# Altium footprint library Connector_FFC-FPC.PcbLib: 372 footprints (part 23 of 24)
Each footprint in its own frame and in the unit in brackets; x right, y up, seen from the top. Pads: shape width x height; smd on the part's side, far side on the other; paste and mask are expansions set on the pad; w line width, h text height; cw(c..) or ccw(c..) is an arc to the next point about the centre after c.
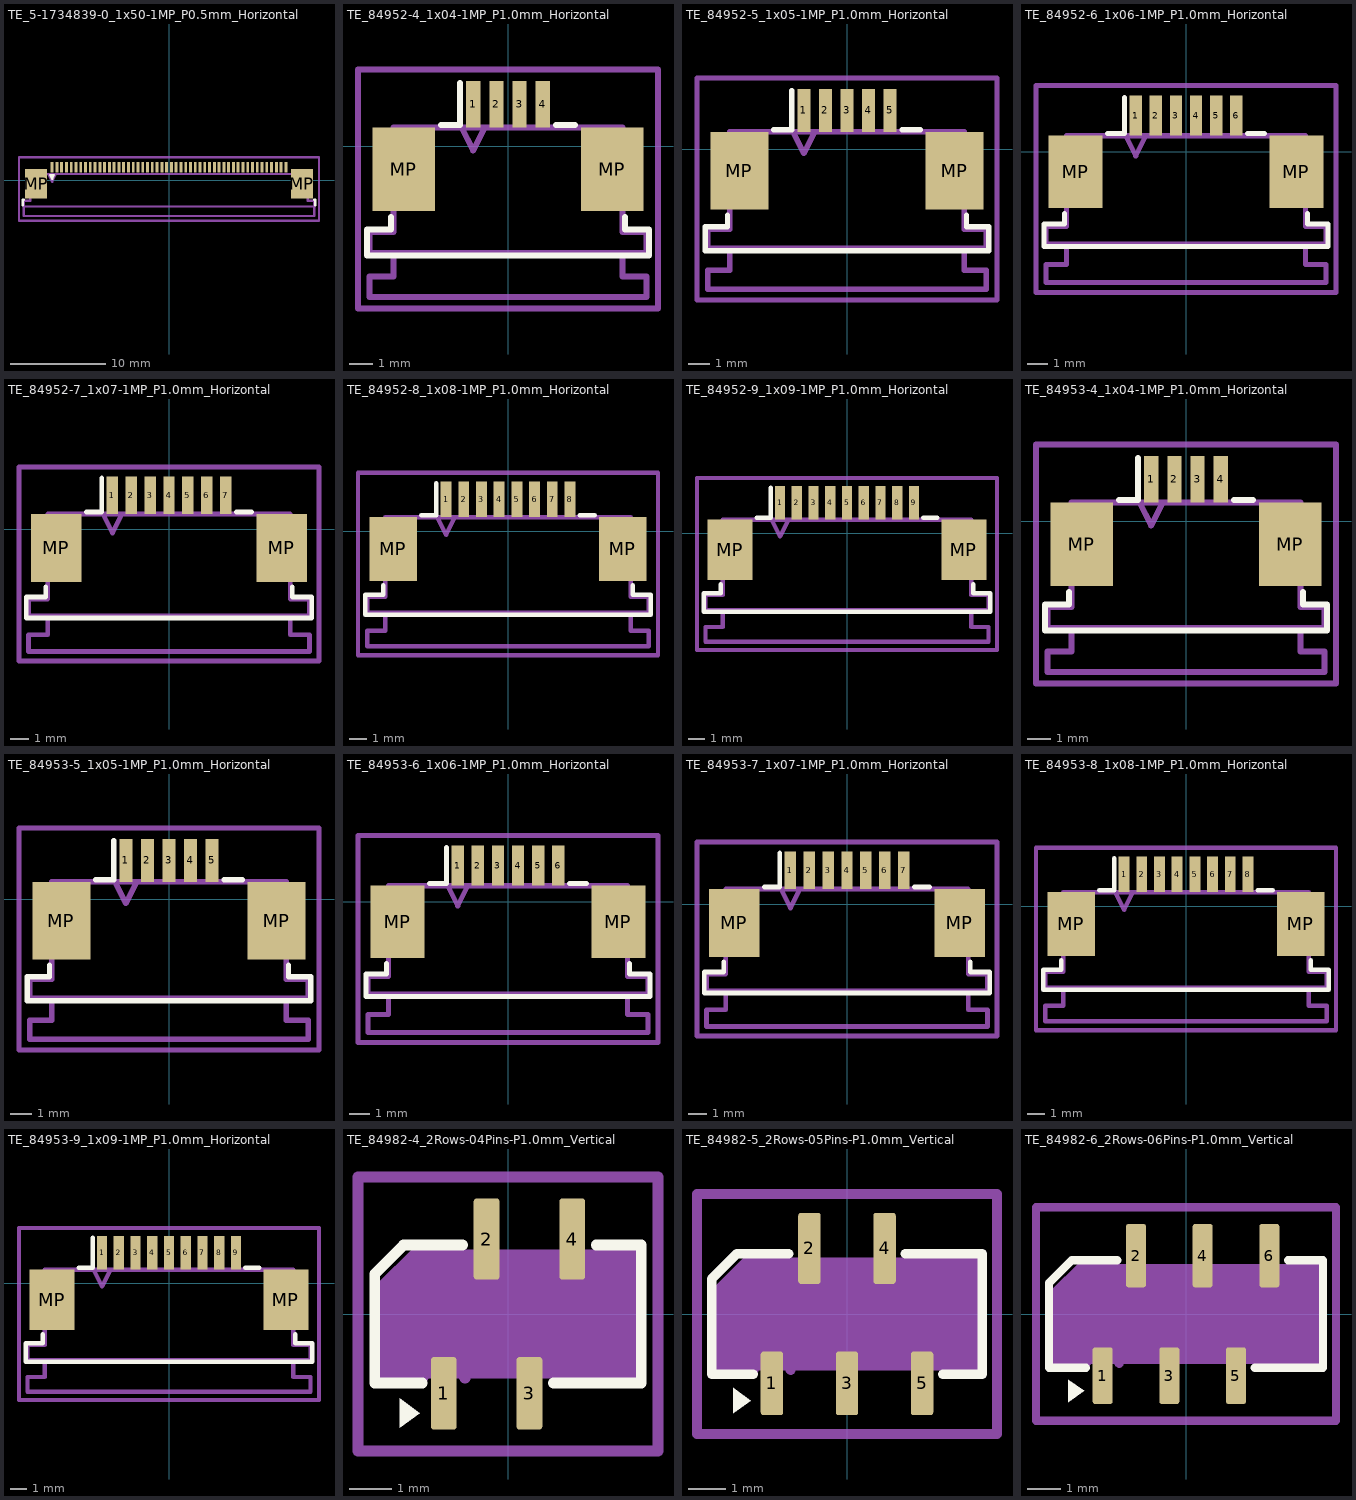
[diagram p22: the footprints below, top view; thin cyan lines are the x and y axes]

## TE_5-1734839-0_1x50-1MP_P0.5mm_Horizontal [mm]
pads (52):
  rect 0.3x1.1 smd: 1(-12.25,1.35) 2(-11.75,1.35) 3(-11.25,1.35) 4(-10.75,1.35) 5(-10.25,1.35) 6(-9.75,1.35) 7(-9.25,1.35) 8(-8.75,1.35) 9(-8.25,1.35) 10(-7.75,1.35) 11(-7.25,1.35) 12(-6.75,1.35) 13(-6.25,1.35) 14(-5.75,1.35) 15(-5.25,1.35) 16(-4.75,1.35) 17(-4.25,1.35) 18(-3.75,1.35) 19(-3.25,1.35) 20(-2.75,1.35) 21(-2.25,1.35) 22(-1.75,1.35) 23(-1.25,1.35) 24(-0.75,1.35) 25(-0.25,1.35) 26(0.25,1.35) 27(0.75,1.35) 28(1.25,1.35) 29(1.75,1.35) 30(2.25,1.35) 31(2.75,1.35) 32(3.25,1.35) 33(3.75,1.35) 34(4.25,1.35) 35(4.75,1.35) 36(5.25,1.35) 37(5.75,1.35) 38(6.25,1.35) 39(6.75,1.35) 40(7.25,1.35) 41(7.75,1.35) 42(8.25,1.35) 43(8.75,1.35) 44(9.25,1.35) 45(9.75,1.35) 46(10.25,1.35) 47(10.75,1.35) 48(11.25,1.35) 49(11.75,1.35) 50(12.25,1.35)
  rect 2.3x3.1 smd: MP(-13.92,-0.35) MP(13.92,-0.35)
F.SilkS:
  lines w0.254: -15.325,-2.64 -15.325,-2.04 -15.215,-2.04 ; 15.215,-2.04 15.325,-2.04 15.325,-2.64 ; -12.45,0.55 -12.05,0.55 -12.25,0.15 -12.45,0.55
Top Assembly:
  lines w0.254: -12.65,0.65 -12.25,-0.15 -11.85,0.65 ; -15.215,-3.75 15.215,-3.75 15.215,-2.15 14.56,-2.15 14.56,0.65 -14.56,0.65 -14.56,-2.15 -15.215,-2.15 -15.215,-3.75
  text "'.Designator'" at -4.047,-2.39 h1
Top Courtyard:
  lines w0.254: -15.72,-4.25 15.72,-4.25 15.72,2.41 -15.72,2.41 -15.72,-4.25
Top Designator:
  text ".Designator" at -7.618,-1.428 h1.52
Dwgs.User:
  lines w0.254: -15.105,-2.75 15.105,-2.75
  text "PCB Edge" at -1.728,-3.663 h0.5

## TE_84952-4_1x04-1MP_P1.0mm_Horizontal [mm]
pads (6):
  rect 0.61x2 smd: 1(-1.5,1.8) 2(-0.5,1.8) 3(0.5,1.8) 4(1.5,1.8)
  rect 2.68x3.6 smd: MP(-4.49,-1) MP(4.49,-1)
F.SilkS:
  lines w0.254: -5.045,-3.06 -5.045,-3.6 -6.07,-3.6 -6.07,-4.71 6.07,-4.71 6.07,-3.6 5.045,-3.6 5.045,-3.06 ; -2.89,0.91 -2.065,0.91 -2.065,2.71 ; 2.065,0.91 2.89,0.91
Top Assembly:
  lines w0.254: -4.935,-4.6 -4.935,-5.61 -5.96,-5.61 -5.96,-6.5 5.96,-6.5 5.96,-5.61 4.935,-5.61 4.935,-4.6 ; -2,0.8 -1.5,-0.2 -1,0.8 ; -5.96,-4.6 5.96,-4.6 5.96,-3.71 4.935,-3.71 4.935,0.8 -4.935,0.8 -4.935,-3.71 -5.96,-3.71 -5.96,-4.6
  text "'.Designator'" at -4.047,-2.74 h1
Top Courtyard:
  lines w0.254: -6.46,-7 6.46,-7 6.46,3.3 -6.46,3.3 -6.46,-7
Top Designator:
  text ".Designator" at -7.618,-2.358 h1.52

## TE_84952-5_1x05-1MP_P1.0mm_Horizontal [mm]
pads (7):
  rect 0.61x2 smd: 1(-2,1.8) 2(-1,1.8) 3(0,1.8) 4(1,1.8) 5(2,1.8)
  rect 2.68x3.6 smd: MP(-4.99,-1) MP(4.99,-1)
F.SilkS:
  lines w0.254: -5.545,-3.06 -5.545,-3.6 -6.57,-3.6 -6.57,-4.71 6.57,-4.71 6.57,-3.6 5.545,-3.6 5.545,-3.06 ; -3.39,0.91 -2.565,0.91 -2.565,2.71 ; 2.565,0.91 3.39,0.91
Top Assembly:
  lines w0.254: -5.435,-4.6 -5.435,-5.61 -6.46,-5.61 -6.46,-6.5 6.46,-6.5 6.46,-5.61 5.435,-5.61 5.435,-4.6 ; -2.5,0.8 -2,-0.2 -1.5,0.8 ; -6.46,-4.6 6.46,-4.6 6.46,-3.71 5.435,-3.71 5.435,0.8 -5.435,0.8 -5.435,-3.71 -6.46,-3.71 -6.46,-4.6
  text "'.Designator'" at -4.047,-2.74 h1
Top Courtyard:
  lines w0.254: -6.96,-7 6.96,-7 6.96,3.3 -6.96,3.3 -6.96,-7
Top Designator:
  text ".Designator" at -7.618,-2.358 h1.52

## TE_84952-6_1x06-1MP_P1.0mm_Horizontal [mm]
pads (8):
  rect 0.61x2 smd: 1(-2.5,1.8) 2(-1.5,1.8) 3(-0.5,1.8) 4(0.5,1.8) 5(1.5,1.8) 6(2.5,1.8)
  rect 2.68x3.6 smd: MP(-5.49,-1) MP(5.49,-1)
F.SilkS:
  lines w0.254: -6.045,-3.06 -6.045,-3.6 -7.07,-3.6 -7.07,-4.71 7.07,-4.71 7.07,-3.6 6.045,-3.6 6.045,-3.06 ; -3.89,0.91 -3.065,0.91 -3.065,2.71 ; 3.065,0.91 3.89,0.91
Top Assembly:
  lines w0.254: -5.935,-4.6 -5.935,-5.61 -6.96,-5.61 -6.96,-6.5 6.96,-6.5 6.96,-5.61 5.935,-5.61 5.935,-4.6 ; -3,0.8 -2.5,-0.2 -2,0.8 ; -6.96,-4.6 6.96,-4.6 6.96,-3.71 5.935,-3.71 5.935,0.8 -5.935,0.8 -5.935,-3.71 -6.96,-3.71 -6.96,-4.6
  text "'.Designator'" at -4.047,-2.74 h1
Top Courtyard:
  lines w0.254: -7.46,-7 7.46,-7 7.46,3.3 -7.46,3.3 -7.46,-7
Top Designator:
  text ".Designator" at -7.618,-2.358 h1.52

## TE_84952-7_1x07-1MP_P1.0mm_Horizontal [mm]
pads (9):
  rect 0.61x2 smd: 1(-3,1.8) 2(-2,1.8) 3(-1,1.8) 4(0,1.8) 5(1,1.8) 6(2,1.8) 7(3,1.8)
  rect 2.68x3.6 smd: MP(-5.99,-1) MP(5.99,-1)
F.SilkS:
  lines w0.254: -6.545,-3.06 -6.545,-3.6 -7.57,-3.6 -7.57,-4.71 7.57,-4.71 7.57,-3.6 6.545,-3.6 6.545,-3.06 ; -4.39,0.91 -3.565,0.91 -3.565,2.71 ; 3.565,0.91 4.39,0.91
Top Assembly:
  lines w0.254: -6.435,-4.6 -6.435,-5.61 -7.46,-5.61 -7.46,-6.5 7.46,-6.5 7.46,-5.61 6.435,-5.61 6.435,-4.6 ; -3.5,0.8 -3,-0.2 -2.5,0.8 ; -7.46,-4.6 7.46,-4.6 7.46,-3.71 6.435,-3.71 6.435,0.8 -6.435,0.8 -6.435,-3.71 -7.46,-3.71 -7.46,-4.6
  text "'.Designator'" at -4.047,-2.74 h1
Top Courtyard:
  lines w0.254: -7.96,-7 7.96,-7 7.96,3.3 -7.96,3.3 -7.96,-7
Top Designator:
  text ".Designator" at -7.618,-2.358 h1.52

## TE_84952-8_1x08-1MP_P1.0mm_Horizontal [mm]
pads (10):
  rect 0.61x2 smd: 1(-3.5,1.8) 2(-2.5,1.8) 3(-1.5,1.8) 4(-0.5,1.8) 5(0.5,1.8) 6(1.5,1.8) 7(2.5,1.8) 8(3.5,1.8)
  rect 2.68x3.6 smd: MP(-6.49,-1) MP(6.49,-1)
F.SilkS:
  lines w0.254: -7.045,-3.06 -7.045,-3.6 -8.07,-3.6 -8.07,-4.71 8.07,-4.71 8.07,-3.6 7.045,-3.6 7.045,-3.06 ; -4.89,0.91 -4.065,0.91 -4.065,2.71 ; 4.065,0.91 4.89,0.91
Top Assembly:
  lines w0.254: -6.935,-4.6 -6.935,-5.61 -7.96,-5.61 -7.96,-6.5 7.96,-6.5 7.96,-5.61 6.935,-5.61 6.935,-4.6 ; -4,0.8 -3.5,-0.2 -3,0.8 ; -7.96,-4.6 7.96,-4.6 7.96,-3.71 6.935,-3.71 6.935,0.8 -6.935,0.8 -6.935,-3.71 -7.96,-3.71 -7.96,-4.6
  text "'.Designator'" at -4.047,-2.74 h1
Top Courtyard:
  lines w0.254: -8.47,-7 8.47,-7 8.47,3.3 -8.47,3.3 -8.47,-7
Top Designator:
  text ".Designator" at -7.618,-2.358 h1.52

## TE_84952-9_1x09-1MP_P1.0mm_Horizontal [mm]
pads (11):
  rect 0.61x2 smd: 1(-4,1.8) 2(-3,1.8) 3(-2,1.8) 4(-1,1.8) 5(0,1.8) 6(1,1.8) 7(2,1.8) 8(3,1.8) 9(4,1.8)
  rect 2.68x3.6 smd: MP(-6.99,-1) MP(6.99,-1)
F.SilkS:
  lines w0.254: -7.545,-3.06 -7.545,-3.6 -8.57,-3.6 -8.57,-4.71 8.57,-4.71 8.57,-3.6 7.545,-3.6 7.545,-3.06 ; -5.39,0.91 -4.565,0.91 -4.565,2.71 ; 4.565,0.91 5.39,0.91
Top Assembly:
  lines w0.254: -7.435,-4.6 -7.435,-5.61 -8.46,-5.61 -8.46,-6.5 8.46,-6.5 8.46,-5.61 7.435,-5.61 7.435,-4.6 ; -4.5,0.8 -4,-0.2 -3.5,0.8 ; -8.46,-4.6 8.46,-4.6 8.46,-3.71 7.435,-3.71 7.435,0.8 -7.435,0.8 -7.435,-3.71 -8.46,-3.71 -8.46,-4.6
  text "'.Designator'" at -4.047,-2.74 h1
Top Courtyard:
  lines w0.254: -8.97,-7 8.97,-7 8.97,3.3 -8.97,3.3 -8.97,-7
Top Designator:
  text ".Designator" at -7.618,-2.358 h1.52

## TE_84953-4_1x04-1MP_P1.0mm_Horizontal [mm]
pads (6):
  rect 0.61x2 smd: 1(-1.5,1.8) 2(-0.5,1.8) 3(0.5,1.8) 4(1.5,1.8)
  rect 2.68x3.6 smd: MP(-4.49,-1) MP(4.49,-1)
F.SilkS:
  lines w0.254: -5.045,-3.06 -5.045,-3.6 -6.07,-3.6 -6.07,-4.71 6.07,-4.71 6.07,-3.6 5.045,-3.6 5.045,-3.06 ; -2.89,0.91 -2.065,0.91 -2.065,2.71 ; 2.065,0.91 2.89,0.91
Top Assembly:
  lines w0.254: -4.935,-4.6 -4.935,-5.61 -5.96,-5.61 -5.96,-6.5 5.96,-6.5 5.96,-5.61 4.935,-5.61 4.935,-4.6 ; -2,0.8 -1.5,-0.2 -1,0.8 ; -5.96,-4.6 5.96,-4.6 5.96,-3.71 4.935,-3.71 4.935,0.8 -4.935,0.8 -4.935,-3.71 -5.96,-3.71 -5.96,-4.6
  text "'.Designator'" at -4.047,-2.74 h1
Top Courtyard:
  lines w0.254: -6.46,-7 6.46,-7 6.46,3.3 -6.46,3.3 -6.46,-7
Top Designator:
  text ".Designator" at -7.618,-2.358 h1.52

## TE_84953-5_1x05-1MP_P1.0mm_Horizontal [mm]
pads (7):
  rect 0.61x2 smd: 1(-2,1.8) 2(-1,1.8) 3(0,1.8) 4(1,1.8) 5(2,1.8)
  rect 2.68x3.6 smd: MP(-4.99,-1) MP(4.99,-1)
F.SilkS:
  lines w0.254: -5.545,-3.06 -5.545,-3.6 -6.57,-3.6 -6.57,-4.71 6.57,-4.71 6.57,-3.6 5.545,-3.6 5.545,-3.06 ; -3.39,0.91 -2.565,0.91 -2.565,2.71 ; 2.565,0.91 3.39,0.91
Top Assembly:
  lines w0.254: -5.435,-4.6 -5.435,-5.61 -6.46,-5.61 -6.46,-6.5 6.46,-6.5 6.46,-5.61 5.435,-5.61 5.435,-4.6 ; -2.5,0.8 -2,-0.2 -1.5,0.8 ; -6.46,-4.6 6.46,-4.6 6.46,-3.71 5.435,-3.71 5.435,0.8 -5.435,0.8 -5.435,-3.71 -6.46,-3.71 -6.46,-4.6
  text "'.Designator'" at -4.047,-2.74 h1
Top Courtyard:
  lines w0.254: -6.96,-7 6.96,-7 6.96,3.3 -6.96,3.3 -6.96,-7
Top Designator:
  text ".Designator" at -7.618,-2.358 h1.52

## TE_84953-6_1x06-1MP_P1.0mm_Horizontal [mm]
pads (8):
  rect 0.61x2 smd: 1(-2.5,1.8) 2(-1.5,1.8) 3(-0.5,1.8) 4(0.5,1.8) 5(1.5,1.8) 6(2.5,1.8)
  rect 2.68x3.6 smd: MP(-5.49,-1) MP(5.49,-1)
F.SilkS:
  lines w0.254: -6.045,-3.06 -6.045,-3.6 -7.07,-3.6 -7.07,-4.71 7.07,-4.71 7.07,-3.6 6.045,-3.6 6.045,-3.06 ; -3.89,0.91 -3.065,0.91 -3.065,2.71 ; 3.065,0.91 3.89,0.91
Top Assembly:
  lines w0.254: -5.935,-4.6 -5.935,-5.61 -6.96,-5.61 -6.96,-6.5 6.96,-6.5 6.96,-5.61 5.935,-5.61 5.935,-4.6 ; -3,0.8 -2.5,-0.2 -2,0.8 ; -6.96,-4.6 6.96,-4.6 6.96,-3.71 5.935,-3.71 5.935,0.8 -5.935,0.8 -5.935,-3.71 -6.96,-3.71 -6.96,-4.6
  text "'.Designator'" at -4.047,-2.74 h1
Top Courtyard:
  lines w0.254: -7.46,-7 7.46,-7 7.46,3.3 -7.46,3.3 -7.46,-7
Top Designator:
  text ".Designator" at -7.618,-2.358 h1.52

## TE_84953-7_1x07-1MP_P1.0mm_Horizontal [mm]
pads (9):
  rect 0.61x2 smd: 1(-3,1.8) 2(-2,1.8) 3(-1,1.8) 4(0,1.8) 5(1,1.8) 6(2,1.8) 7(3,1.8)
  rect 2.68x3.6 smd: MP(-5.99,-1) MP(5.99,-1)
F.SilkS:
  lines w0.254: -6.545,-3.06 -6.545,-3.6 -7.57,-3.6 -7.57,-4.71 7.57,-4.71 7.57,-3.6 6.545,-3.6 6.545,-3.06 ; -4.39,0.91 -3.565,0.91 -3.565,2.71 ; 3.565,0.91 4.39,0.91
Top Assembly:
  lines w0.254: -6.435,-4.6 -6.435,-5.61 -7.46,-5.61 -7.46,-6.5 7.46,-6.5 7.46,-5.61 6.435,-5.61 6.435,-4.6 ; -3.5,0.8 -3,-0.2 -2.5,0.8 ; -7.46,-4.6 7.46,-4.6 7.46,-3.71 6.435,-3.71 6.435,0.8 -6.435,0.8 -6.435,-3.71 -7.46,-3.71 -7.46,-4.6
  text "'.Designator'" at -4.047,-2.74 h1
Top Courtyard:
  lines w0.254: -7.96,-7 7.96,-7 7.96,3.3 -7.96,3.3 -7.96,-7
Top Designator:
  text ".Designator" at -7.618,-2.358 h1.52

## TE_84953-8_1x08-1MP_P1.0mm_Horizontal [mm]
pads (10):
  rect 0.61x2 smd: 1(-3.5,1.8) 2(-2.5,1.8) 3(-1.5,1.8) 4(-0.5,1.8) 5(0.5,1.8) 6(1.5,1.8) 7(2.5,1.8) 8(3.5,1.8)
  rect 2.68x3.6 smd: MP(-6.49,-1) MP(6.49,-1)
F.SilkS:
  lines w0.254: -7.045,-3.06 -7.045,-3.6 -8.07,-3.6 -8.07,-4.71 8.07,-4.71 8.07,-3.6 7.045,-3.6 7.045,-3.06 ; -4.89,0.91 -4.065,0.91 -4.065,2.71 ; 4.065,0.91 4.89,0.91
Top Assembly:
  lines w0.254: -6.935,-4.6 -6.935,-5.61 -7.96,-5.61 -7.96,-6.5 7.96,-6.5 7.96,-5.61 6.935,-5.61 6.935,-4.6 ; -4,0.8 -3.5,-0.2 -3,0.8 ; -7.96,-4.6 7.96,-4.6 7.96,-3.71 6.935,-3.71 6.935,0.8 -6.935,0.8 -6.935,-3.71 -7.96,-3.71 -7.96,-4.6
  text "'.Designator'" at -4.047,-2.74 h1
Top Courtyard:
  lines w0.254: -8.47,-7 8.47,-7 8.47,3.3 -8.47,3.3 -8.47,-7
Top Designator:
  text ".Designator" at -7.618,-2.358 h1.52

## TE_84953-9_1x09-1MP_P1.0mm_Horizontal [mm]
pads (11):
  rect 0.61x2 smd: 1(-4,1.8) 2(-3,1.8) 3(-2,1.8) 4(-1,1.8) 5(0,1.8) 6(1,1.8) 7(2,1.8) 8(3,1.8) 9(4,1.8)
  rect 2.68x3.6 smd: MP(-6.99,-1) MP(6.99,-1)
F.SilkS:
  lines w0.254: -7.545,-3.06 -7.545,-3.6 -8.57,-3.6 -8.57,-4.71 8.57,-4.71 8.57,-3.6 7.545,-3.6 7.545,-3.06 ; -5.39,0.91 -4.565,0.91 -4.565,2.71 ; 4.565,0.91 5.39,0.91
Top Assembly:
  lines w0.254: -7.435,-4.6 -7.435,-5.61 -8.46,-5.61 -8.46,-6.5 8.46,-6.5 8.46,-5.61 7.435,-5.61 7.435,-4.6 ; -4.5,0.8 -4,-0.2 -3.5,0.8 ; -8.46,-4.6 8.46,-4.6 8.46,-3.71 7.435,-3.71 7.435,0.8 -7.435,0.8 -7.435,-3.71 -8.46,-3.71 -8.46,-4.6
  text "'.Designator'" at -4.047,-2.74 h1
Top Courtyard:
  lines w0.254: -8.97,-7 8.97,-7 8.97,3.3 -8.97,3.3 -8.97,-7
Top Designator:
  text ".Designator" at -7.618,-2.358 h1.52

## TE_84982-4_2Rows-04Pins-P1.0mm_Vertical [mm]
pads (4):
  rrect25% 0.6x1.7 smd: 1(-1.5,-1.85) 3(0.5,-1.85)
  rrect25% 0.6x1.9 smd: 2(-0.5,1.75) 4(1.5,1.75)
F.SilkS:
  region: -2.06,-2.31 -2.53,-2.65 -2.53,-1.97
  lines w0.254: -2,-1.61 -3.11,-1.61 -3.11,0.934 -2.434,1.61 -1.06,1.61 ; 1.06,-1.61 3.11,-1.61 3.11,1.61 2.06,1.61
Top Assembly:
  region: 3,-1.5 -3,-1.5 -3,0.75 -2.25,1.5 3,1.5
  lines w0.254: -2,-1.5 -1.5,-0.7 -1,-1.5
  text "'.Designator'" at -4.047,-0.84 h1
Top Courtyard:
  lines w0.254: -3.5,-3.2 3.5,-3.2 3.5,3.2 -3.5,3.2 -3.5,-3.2
Top Designator:
  text ".Designator" at -7.768,-0.508 h1.52

## TE_84982-5_2Rows-05Pins-P1.0mm_Vertical [mm]
pads (5):
  rrect25% 0.6x1.7 smd: 1(-2,-1.85) 3(0,-1.85) 5(2,-1.85)
  rrect25% 0.6x1.9 smd: 2(-1,1.75) 4(1,1.75)
F.SilkS:
  region: -2.56,-2.31 -3.03,-2.65 -3.03,-1.97
  lines w0.254: -2.5,-1.61 -3.61,-1.61 -3.61,0.934 -2.934,1.61 -1.56,1.61 ; 1.56,1.61 3.61,1.61 3.61,-1.61 2.56,-1.61
Top Assembly:
  region: 3.5,-1.5 -3.5,-1.5 -3.5,0.75 -2.75,1.5 3.5,1.5
  lines w0.254: -2.5,-1.5 -2,-0.7 -1.5,-1.5
  text "'.Designator'" at -4.047,-0.84 h1
Top Courtyard:
  lines w0.254: -4,-3.2 4,-3.2 4,3.2 -4,3.2 -4,-3.2
Top Designator:
  text ".Designator" at -7.652,-0.508 h1.52

## TE_84982-6_2Rows-06Pins-P1.0mm_Vertical [mm]
pads (6):
  rrect25% 0.6x1.7 smd: 1(-2.5,-1.85) 3(-0.5,-1.85) 5(1.5,-1.85)
  rrect25% 0.6x1.9 smd: 2(-1.5,1.75) 4(0.5,1.75) 6(2.5,1.75)
F.SilkS:
  region: -3.06,-2.31 -3.53,-2.65 -3.53,-1.97
  lines w0.254: -3,-1.61 -4.11,-1.61 -4.11,0.934 -3.434,1.61 -2.06,1.61 ; 2.06,-1.61 4.11,-1.61 4.11,1.61 3.06,1.61
Top Assembly:
  region: 4,-1.5 -4,-1.5 -4,0.75 -3.25,1.5 4,1.5
  lines w0.254: -3,-1.5 -2.5,-0.7 -2,-1.5
  text "'.Designator'" at -4.047,-0.84 h1
Top Courtyard:
  lines w0.254: -4.5,-3.2 4.5,-3.2 4.5,3.2 -4.5,3.2 -4.5,-3.2
Top Designator:
  text ".Designator" at -7.618,-0.508 h1.52